# EAGLE library part AS-ITM-00357 (library tinycircuits)
IC OPAMP GP 4MHZ RRO 8TSSOP
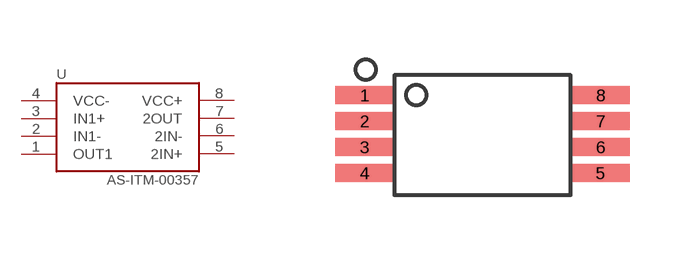
[diagram p142: symbol with the pads of TSSOP(8); footprint TSSOP(8)]

Designator prefix U

## AS-ITM-00357 (PARTNO: AS-ITM-00357; VALUE: TS922IPT)  [TSSOP(8)]
1  OUT1
2  IN1-
3  IN1+
4  VCC-
5  2IN+
6  2IN-
7  2OUT
8  VCC+

## Footprint TSSOP(8) (pad centres in mm)
smd 1.45 x 0.45: 1 -3,1; 2 -3,0.35; 3 -3,-0.3; 4 -3,-0.95; 5 2.9,-0.95; 6 2.9,-0.3; 7 2.9,0.35; 8 2.9,1